# Altium footprint library GPS_MODULE_ZED-F9T.PcbLib: 16 footprints
Each footprint in its own frame and in the unit in brackets; x right, y up, seen from the top. Pads: shape width x height; smd on the part's side, far side on the other; paste and mask are expansions set on the pad; w line width, h text height; cw(c..) or ccw(c..) is an arc to the next point about the centre after c.
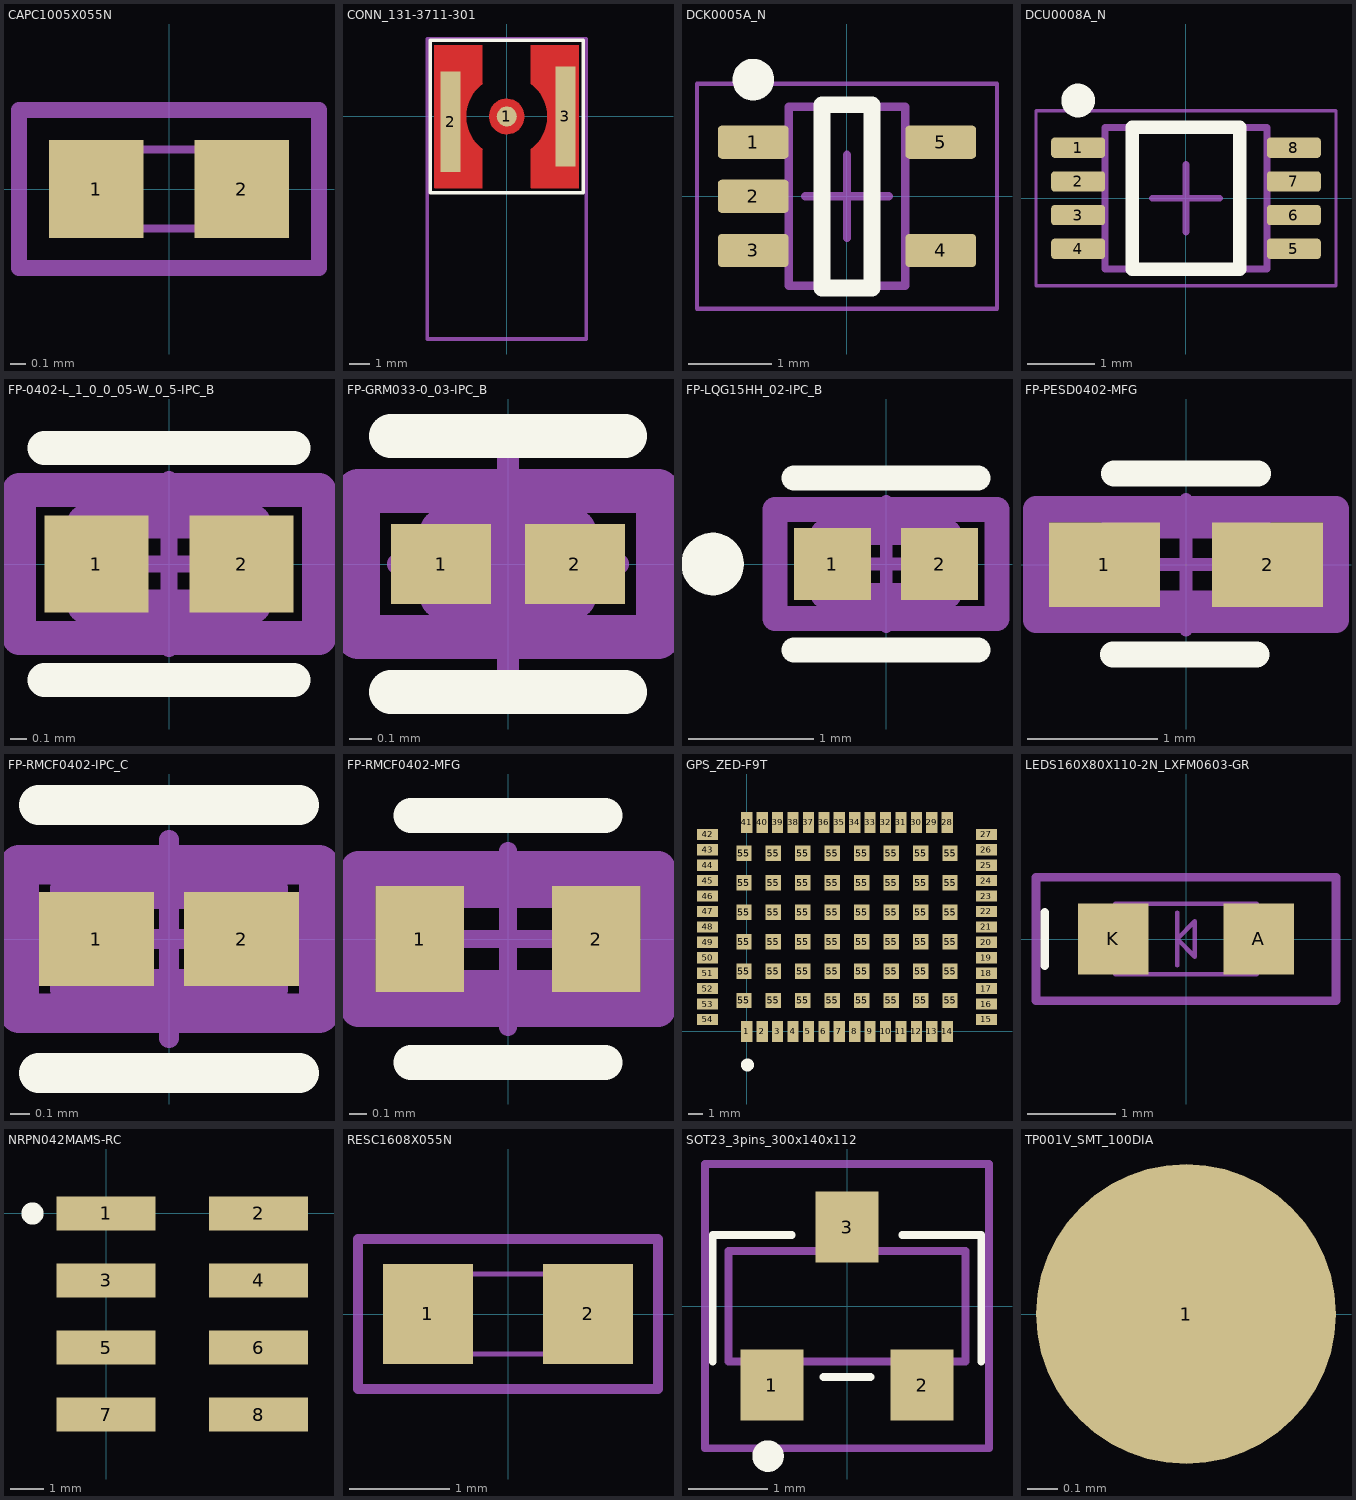
[diagram p0: the footprints below, top view; thin cyan lines are the x and y axes]

## CAPC1005X055N [mm]
pads (2):
  rect 0.6x0.62 smd paste+0 mask+0.05: 1(-0.46,0) 2(0.46,0)
Top Designator:
  text ".designator" at -1.09,-0.207 h0.5
Top Courtyard:
  lines w0.1: -0.95,-0.5 -0.95,0.5 0.95,0.5 0.95,-0.5 -0.95,-0.5
Top Component Outline:
  lines w0.05: -0.5,-0.25 0.5,-0.25 0.5,0.25 -0.5,0.25 -0.5,-0.25
3D body "CAPC1005X055.STEP": height 0.55, standoff 0, extent -0.5,-0.25 0.5,0.25

## CONN_131-3711-301 [mm]
pads (3):
  round 1 smd mask+0: 1(0,0)
  rect 1x5 smd mask+0: 2(-2.794,-0.254) 3(2.916,0)
Top Layer:
  circle w0.013: c0,0 r0.864
  region: -0.864,0 -0.864,-0.085 -0.83,-0.252 -0.765,-0.409 -0.671,-0.55 -0.55,-0.671 -0.409,-0.765 -0.252,-0.83 -0.085,-0.863 0,-0.863 0.085,-0.863 0.252,-0.83 0.409,-0.765 0.551,-0.671 0.671,-0.55 0.765,-0.409 0.831,-0.252 0.864,-0.085 0.864,0 0.864,0.085 0.831,0.252 0.765,0.409 0.671,0.551 0.551,0.671 0.409,0.765 0.252,0.831 0.085,0.864 0,0.864 -0.085,0.864 -0.252,0.831 -0.409,0.765 -0.55,0.671 -0.671,0.551 -0.765,0.409 -0.83,0.252 -0.864,0.085
  region: -3.581,-3.556 -1.219,-3.556 -1.219,-1.641 -1.343,-1.542 -1.565,-1.315 -1.75,-1.057 -1.892,-0.774 -1.989,-0.472 -2.038,-0.158 -2.038,0.159 -1.989,0.472 -1.892,0.774 -1.75,1.058 -1.565,1.316 -1.343,1.542 -1.219,1.642 -1.219,3.556 -3.581,3.556
  region: 1.219,-3.556 3.581,-3.556 3.581,3.556 1.219,3.556 1.219,1.642 1.343,1.542 1.565,1.316 1.75,1.058 1.893,0.774 1.99,0.472 2.039,0.159 2.039,-0.158 1.99,-0.472 1.893,-0.774 1.75,-1.057 1.565,-1.315 1.343,-1.542 1.219,-1.641
  lines w0.013: -3.581,-3.556 -3.581,3.556 -1.219,3.556 -1.219,1.642 ccw(c0,0) -1.219,-1.641 -1.219,-3.556 -3.581,-3.556 ; 1.219,-3.556 1.219,-1.641 ccw(c0,0) 1.219,1.642 1.219,3.556 3.581,3.556 3.581,-3.556 1.219,-3.556
Top Overlay:
  lines w0.178: -3.8,-3.8 3.8,-3.8 3.8,3.8 -3.8,3.8 -3.8,-3.8
Mechanical 1:
  lines w0.178: -3.962,-11.074 3.962,-11.074 3.962,3.856 -3.962,3.856 -3.962,-11.074
3D body "142-0711-301.stp": height 8.27, standoff 0.01, extent -3.175,-10.16 3.175,3.175

## DCK0005A_N [mm]
pads (5):
  rrect25% 0.85x0.4 smd: 1(-1.125,0.65) 2(-1.125,0) 3(-1.125,-0.65) 4(1.125,-0.65) 5(1.125,0.65)
Top Overlay:
  circle w0.25: c-1.125,1.4 r0.125
  lines w0.2: -0.3,-1.1 0.3,-1.1 0.3,1.1 -0.3,1.1 -0.3,-1.1
Mechanical 1:
  text ".Designator" at -0.635,-0.127 h0.3
Top 3D Body:
  lines w0.1: -0.7,-1.075 -0.7,1.075 0.7,1.075 0.7,-1.075 -0.7,-1.075
Top Courtyard:
  lines w0.05: -1.8,-1.35 -1.8,1.35 1.8,1.35 1.8,-1.35 -1.8,-1.35
  lines w0.1: -0.5,0 0.5,0 ; 0,-0.5 0,0.5
3D body "DCK0005AakaMAA05A.stp": height 0.94, standoff -0.01, extent -1.14,-1 1.14,1

## DCU0008A_N [mm]
pads (8):
  rrect33% 0.8x0.3 smd: 1(-1.6,0.75) 2(-1.6,0.25) 3(-1.6,-0.25) 4(-1.6,-0.75) 5(1.6,-0.75) 6(1.6,-0.25) 7(1.6,0.25) 8(1.6,0.75)
Top Overlay:
  circle w0.25: c-1.6,1.45 r0.125
  lines w0.2: -0.8,-1.05 -0.8,1.05 0.8,1.05 0.8,-1.05 -0.8,-1.05
Mechanical 1:
  text ".Designator" at -1.016,-0.127 h0.5
Top 3D Body:
  lines w0.1: -1.2,-1.05 -1.2,1.05 1.2,1.05 1.2,-1.05 -1.2,-1.05
Top Courtyard:
  lines w0.05: -2.225,-1.3 -2.225,1.3 2.225,1.3 2.225,-1.3 -2.225,-1.3
  lines w0.1: -0.5,0 0.5,0 ; 0,-0.5 0,0.5
3D body "DCU0008A.stp": height 0.9, standoff 0, extent -1.561,-1 1.561,1

## FP-0402-L_1_0_0_05-W_0_5-IPC_B [mm]
pads (2):
  rect 0.615x0.572 smd paste+0 mask+0: 1(-0.429,0) 2(0.429,0)
Top Overlay:
  lines w0.2: -0.736,-0.686 0.736,-0.686 ; -0.736,0.686 0.736,0.686
Top Component Center:
  lines w0.1: -0.5,0 0.5,0 ; 0,-0.5 0,0.5
Top Assembly:
  lines w0.2: -0.886,-0.436 -0.886,0.436 0.886,0.436 0.886,-0.436 -0.886,-0.436
  text ".Designator" at 0.457,1.362 h1
Top 3D Body:
  lines w0.2: -0.5,-0.25 -0.5,0.25 0.5,0.25 0.5,-0.25 -0.5,-0.25
Top Courtyard:
  lines w0.2: -0.886,-0.436 -0.886,0.436 0.886,0.436 0.886,-0.436 -0.886,-0.436
3D body "Cap_Taiyo_Yuden_QVS105CG0R9BVHF_eec.STEP": height 0.25, standoff 0, extent -0.886,-0.436 0.886,0.436

## FP-GRM033-0_03-IPC_B [mm]
pads (2):
  rect 0.454x0.363 smd paste+0 mask+0: 1(-0.304,0) 2(0.304,0)
Top Overlay:
  lines w0.2: -0.531,-0.581 0.531,-0.581 ; -0.531,0.581 0.531,0.581
Top Component Center:
  lines w0.1: -0.5,0 0.5,0 ; 0,-0.5 0,0.5
Top Assembly:
  lines w0.2: -0.681,-0.331 -0.681,0.331 0.681,0.331 0.681,-0.331 -0.681,-0.331
  text ".Designator" at 0.737,1.362 h1
Top 3D Body:
  lines w0.2: -0.3,-0.15 -0.3,0.15 0.3,0.15 0.3,-0.15 -0.3,-0.15
Top Courtyard:
  lines w0.2: -0.681,-0.331 -0.681,0.331 0.681,0.331 0.681,-0.331 -0.681,-0.331
3D body "Cap_Murata_GRM0335C1HR30BA01D_eec.STEP": height 0.25, standoff 0, extent -0.681,-0.331 0.681,0.331

## FP-LQG15HH_02-IPC_B [mm]
pads (2):
  rect 0.615x0.572 smd paste+0 mask+0: 1(-0.429,0) 2(0.429,0)
Top Overlay:
  circle w0.25: c-1.386,0 r0.125
  lines w0.2: -0.736,-0.686 0.736,-0.686 ; -0.736,0.686 0.736,0.686
Top Component Center:
  lines w0.1: -0.5,0 0.5,0 ; 0,-0.5 0,0.5
Top Assembly:
  lines w0.2: -0.886,-0.436 -0.886,0.436 0.886,0.436 0.886,-0.436 -0.886,-0.436
  text ".Designator" at -0.102,-1.235 h1
Top 3D Body:
  lines w0.2: -0.5,-0.25 -0.5,0.25 0.5,0.25 0.5,-0.25 -0.5,-0.25
Top Courtyard:
  lines w0.2: -0.886,-0.436 -0.886,0.436 0.886,0.436 0.886,-0.436 -0.886,-0.436
3D body "Ind_Murata_LQG15HN39NJ02D_eec.STEP": height 0.25, standoff 0, extent -0.886,-0.436 0.886,0.436

## FP-PESD0402-MFG [mm]
pads (2):
  rect 0.85x0.65 smd paste+0 mask+0: 1(-0.625,0) 2(0.625,0)
Top Overlay:
  lines w0.2: -0.56,-0.69 0.54,-0.69 ; -0.55,0.7 0.55,0.7
Top Component Center:
  lines w0.1: -0.5,0 0.5,0 ; 0,-0.5 0,0.5
Top Assembly:
  lines w0.2: -1.15,-0.425 -1.15,0.425 1.15,0.425 1.15,-0.425 -1.15,-0.425
  text ".Designator" at -0.152,1.305 h1
Top 3D Body:
  lines w0.2: -0.55,-0.3 -0.55,0.3 0.55,0.3 0.55,-0.3 -0.55,-0.3
Top Courtyard:
  lines w0.2: -1.15,-0.425 -1.15,0.425 1.15,0.425 1.15,-0.425 -1.15,-0.425
3D body "Diode_Littelfuse_Inc_PESD0402-140_eec.STEP": height 0.25, standoff 0, extent -1.15,-0.425 1.15,0.425

## FP-RMCF0402-IPC_C [mm]
pads (2):
  rect 0.581x0.472 smd paste+0 mask+0: 1(-0.366,0) 2(0.366,0)
Top Overlay:
  lines w0.2: -0.656,-0.675 0.656,-0.675 ; -0.656,0.675 0.656,0.675
Top Component Center:
  lines w0.1: -0.5,0 0.5,0 ; 0,-0.5 0,0.5
Top Assembly:
  lines w0.2: -0.756,-0.375 0.756,-0.375 0.756,0.375 -0.756,0.375 -0.756,-0.375
  text ".Designator" at 0,0.188 h1
Top 3D Body:
  lines w0.2: -0.5,-0.25 0.5,-0.25 0.5,0.25 -0.5,0.25 -0.5,-0.25
Top Courtyard:
  lines w0.2: -0.756,-0.375 0.756,-0.375 0.756,0.375 -0.756,0.375 -0.756,-0.375
3D body "Res_Stackpole_Electronics_RMCF0402FT1K00_eec.STEP": height 0.25, standoff 0, extent -0.756,-0.375 0.756,0.375

## FP-RMCF0402-MFG [mm]
pads (2):
  rect 0.5x0.6 smd paste+0 mask+0: 1(-0.5,0) 2(0.5,0)
Top Overlay:
  lines w0.2: -0.55,-0.7 0.55,-0.7 ; -0.55,0.7 0.55,0.7
Top Component Center:
  lines w0.1: -0.5,0 0.5,0 ; 0,-0.5 0,0.5
Top Assembly:
  lines w0.2: -0.85,-0.4 -0.85,0.4 0.85,0.4 0.85,-0.4 -0.85,-0.4
  text ".Designator" at 0.66,1.59 h1
Top 3D Body:
  lines w0.2: -0.55,-0.275 -0.55,0.275 0.55,0.275 0.55,-0.275 -0.55,-0.275
Top Courtyard:
  lines w0.2: -0.85,-0.4 -0.85,0.4 0.85,0.4 0.85,-0.4 -0.85,-0.4
3D body "Res_Stackpole_Electronics_RMCF0402FT1K00_eec.STEP": height 0.25, standoff 0, extent -0.85,-0.4 0.85,0.4

## GPS_ZED-F9T [mm]
pads (102):
  rect 0.8x1.5 smd: 1(0,0) 2(1.1,0) 3(2.2,0) 4(3.3,0) 5(4.4,0) 6(5.5,0) 7(6.6,0) 8(7.7,0) 9(8.8,0) 10(9.9,0) 11(11,0) 12(12.1,0) 13(13.2,0) 14(14.3,0) 28(14.3,14.9) 29(13.2,14.9) 30(12.1,14.9) 31(11,14.9) 32(9.9,14.9) 33(8.8,14.9) 34(7.7,14.9) 35(6.6,14.9) 36(5.5,14.9) 37(4.4,14.9) 38(3.3,14.9) 39(2.2,14.9) 40(1.1,14.9) 41(0,14.9)
  rect 1.5x0.8 smd: 15(17.1,0.85) 16(17.1,1.95) 17(17.1,3.05) 18(17.1,4.15) 19(17.1,5.25) 20(17.1,6.35) 21(17.1,7.45) 22(17.1,8.55) 23(17.1,9.65) 24(17.1,10.75) 25(17.1,11.85) 26(17.1,12.95) 27(17.1,14.05) 42(-2.8,14.05) 43(-2.8,12.95) 44(-2.8,11.85) 45(-2.8,10.75) 46(-2.8,9.65) 47(-2.8,8.55) 48(-2.8,7.45) 49(-2.8,6.35) 50(-2.8,5.25) 51(-2.8,4.15) 52(-2.8,3.05) 53(-2.8,1.95) 54(-2.8,0.85)
  rect 1.1x1.1 smd: 55(-0.2,2.2) 55(-0.2,4.3) 55(-0.2,6.4) 55(-0.2,8.5) 55(-0.2,10.6) 55(-0.2,12.7) 55(1.9,2.2) 55(1.9,4.3) 55(1.9,6.4) 55(1.9,8.5) 55(1.9,10.6) 55(1.9,12.7) 55(4,2.2) 55(4,4.3) 55(4,6.4) 55(4,8.5) 55(4,10.6) 55(4,12.7) 55(6.1,2.2) 55(6.1,4.3) 55(6.1,6.4) 55(6.1,8.5) 55(6.1,10.6) 55(6.1,12.7) 55(8.2,2.2) 55(8.2,4.3) 55(8.2,6.4) 55(8.2,8.5) 55(8.2,10.6) 55(8.2,12.7) 55(10.3,2.2) 55(10.3,4.3) 55(10.3,6.4) 55(10.3,8.5) 55(10.3,10.6) 55(10.3,12.7) 55(12.4,2.2) 55(12.4,4.3) 55(12.4,6.4) 55(12.4,8.5) 55(12.4,10.6) 55(12.4,12.7) 55(14.5,2.2) 55(14.5,4.3) 55(14.5,6.4) 55(14.5,8.5) 55(14.5,10.6) 55(14.5,12.7)
Top Overlay:
  circle w0.762: c0.05,-2.4 r0.076
3D body "ZED_Form_Factor_with_Pin1Mark.STEP": height 2.49, standoff 0.01, extent -3.875,-1.1 18.125,15.9

## LEDS160X80X110-2N_LXFM0603-GR [mm]
pads (2):
  rect 0.8x0.8 smd paste+0 mask+0.05: A(0.825,0) K(-0.825,0)
Top Overlay:
  lines w0.1: -1.6,-0.3 -1.6,0.3
Top Designator:
  text ".designator" at -2.765,-0.525 h1.27
Top Courtyard:
  lines w0.1: -1.7,-0.7 1.7,-0.7 1.7,0.7 -1.7,0.7 -1.7,-0.7
Top Component Outline:
  lines w0.05: -0.1,-0.3 -0.1,0.3 ; -0.8,-0.4 -0.8,0.4 0.8,0.4 0.8,-0.4 -0.8,-0.4 ; -0.1,0 0.1,0.2 0.1,-0.2 -0.1,0
3D body: height 0.6, standoff 0.5, extent -0.6,-0.4 0.6,0.4
3D body: height 0.5, standoff 0, extent -0.8,-0.4 0.8,0.4

## NRPN042MAMS-RC [mm]
pads (8):
  rect 2.95x1.02 smd: 1(0,0) 2(4.55,0) 3(0,-2) 4(4.55,-2) 5(0,-4) 6(4.55,-4) 7(0,-6) 8(4.55,-6)
Top Overlay:
  circle w0.508: c-2.2,0 r0.076
3D body "_ _ _N042MAMS-RC.STEP": height 5.81, standoff 0.01, extent -1.016,-7.048 5.484,0.952

## RESC1608X055N [mm]
pads (2):
  rect 0.9x1 smd paste+0 mask+0.05: 1(-0.8,0) 2(0.8,0)
Top Designator:
  text ".designator" at -1.09,-0.207 h0.5
Top Courtyard:
  lines w0.1: -1.5,-0.75 1.5,-0.75 1.5,0.75 -1.5,0.75 -1.5,-0.75
Top Component Outline:
  lines w0.05: -0.8,-0.4 -0.8,0.4 0.8,0.4 0.8,-0.4 -0.8,-0.4
3D body "RESC1608X055.STEP": height 0.55, standoff 0, extent -0.8,-0.4 0.8,0.4

## SOT23_3pins_300x140x112 [mm]
pads (3):
  rect 0.8x0.9 smd paste+0 mask+0.05: 1(-0.95,-1) 2(0.95,-1) 3(0,1)
Top Overlay:
  circle w0.2: c-1,-1.9 r0.1
  lines w0.1: -1.7,-0.7 -1.7,0.9 -0.7,0.9 ; -0.3,-0.9 0.3,-0.9 ; 0.7,0.9 1.7,0.9 1.7,-0.7
Top Designator:
  text ".designator" at -1.09,-0.207 h0.5
Top Courtyard:
  lines w0.1: -1.8,-1.8 -1.8,1.8 1.8,1.8 1.8,-1.8 -1.8,-1.8
Top Component Outline:
  lines w0.1: -1.205,-0.705 -1.205,-1.2 -0.695,-1.2 -0.695,-0.705 ; -0.255,0.705 -0.255,1.2 0.255,1.2 0.255,0.705 ; 0.695,-0.705 0.695,-1.2 1.205,-1.2 1.205,-0.705 ; -1.5,-0.7 1.5,-0.7 1.5,0.7 -1.5,0.7 -1.5,-0.7
3D body "SOT-23_ONS.step": height 1.12, standoff 0, extent -1.524,-1.321 1.524,1.321

## TP001V_SMT_100DIA [mm]
pads (1):
  round 1 smd paste+0 mask+0.05: 1(-1.397,0)